# EAGLE library part MEM2067-02-180-00-A (library ruark2)
Micro SD, uSD, Secure Digital Memory Card Holder
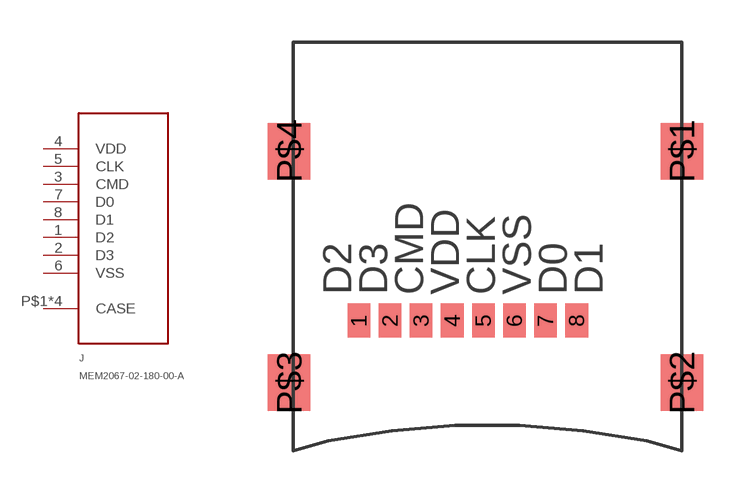
[diagram p88: symbol with the pads of MICRO_SD; footprint MICRO_SD]

Designator prefix J

## MEM2067-02-180-00-A (PARTNO: 2073-MEM2067-02-180-00-ACT-ND)  [MICRO_SD]
1  D2
2  D3
3  CMD
4  VDD
5  CLK
6  VSS
7  D0
8  D1
P$1  CASE
P$2  CASE
P$3  CASE
P$4  CASE

## Footprint MICRO_SD (pad centres in mm)
smd 0.8 x 1.2: 1 -4.475,-4; 2 -3.375,-4; 3 -2.275,-4; 4 -1.175,-4; 5 -0.075,-4; 6 1.025,-4; 7 2.125,-4; 8 3.225,-4
smd 1.5 x 2: P$1 6.945,2; P$2 6.945,-6.2; P$3 -6.945,-6.2; P$4 -6.945,2